# Altium footprint library uson_10_p50_250x100x55_l36x20.PcbLib: 1 footprints
Each footprint in its own frame and in the unit in brackets; x right, y up, seen from the top. Pads: shape width x height; smd on the part's side, far side on the other; paste and mask are expansions set on the pad; w line width, h text height; cw(c..) or ccw(c..) is an arc to the next point about the centre after c.
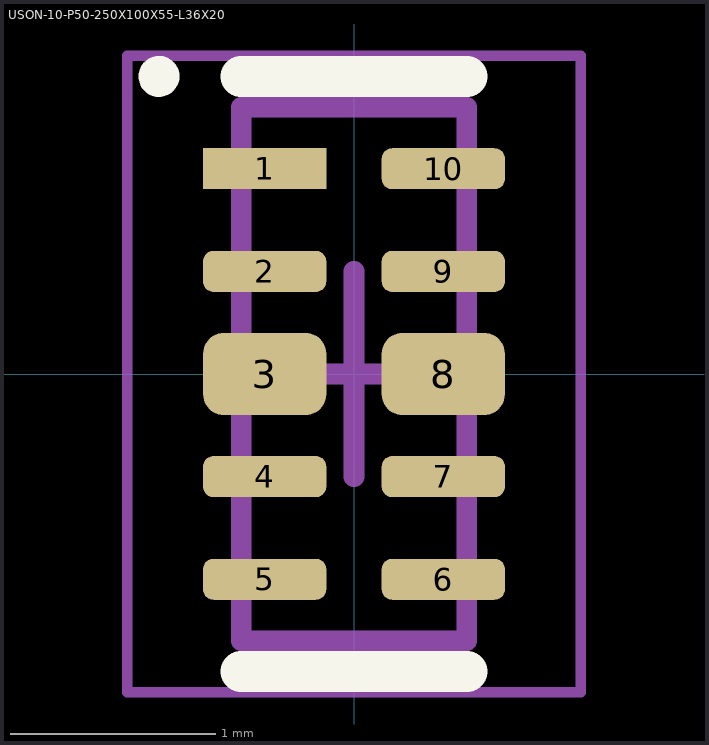
[diagram p0: the footprint, top view; thin cyan lines are the x and y axes]

## USON-10-P50-250X100X55-L36X20 [mm] "SON, 10-Leads, Body 2,50x1,00mm, Pitch 0,50mm, IPC Medium Density"
height 0.55
pads (10):
  rect 0.6x0.2 smd: 1(-0.435,1)
  rrect50% 0.6x0.2 smd: 2(-0.435,0.5) 4(-0.435,-0.5) 5(-0.435,-1) 6(0.435,-1) 7(0.435,-0.5) 9(0.435,0.5) 10(0.435,1)
  rrect50% 0.6x0.4 smd: 3(-0.435,0) 8(0.435,0)
Top Overlay:
  circle w0.1: c-0.95,1.45 r0.05
  lines w0.2: -0.55,-1.45 0.55,-1.45 ; -0.55,1.45 0.55,1.45
Top Comment:
  text ".Comment" at 1,2 h1.2
Top Designator:
  text ".Designator" at -0.5,2 h1.2
Top Component Outline:
  lines w0.1: -0.55,-1.3 -0.55,1.3 0.55,1.3 0.55,-1.3 -0.55,-1.3
Top Courtyard (Mech15):
  lines w0.05: -1.105,-1.55 -1.105,1.55 1.105,1.55 1.105,-1.55 -1.105,-1.55
  lines w0.1: -0.5,0 0.5,0 ; 0,-0.5 0,0.5
3D body "USON-10.STEP": height 0.55, standoff 0, extent -0.5,-1.25 0.5,1.25